# Altium schematic symbol library GainBlock_RFMD_SGA6489.SchLib: 1 symbol
Pins are listed as number, name and electrical type; pins without a type are passive.

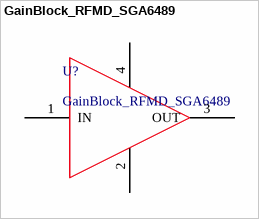
[diagram p0: symbol GainBlock_RFMD_SGA6489]

## GainBlock_RFMD_SGA6489
designator U?
SiGe HBT MMIC Amplifier, 5V
pins: 1 IN, 2, 3 OUT, 4